# EAGLE library part SCA100T-D01 (library ICs)
MEMS Module, 4.75 V, 5.25 V, SMD, 12 Pins
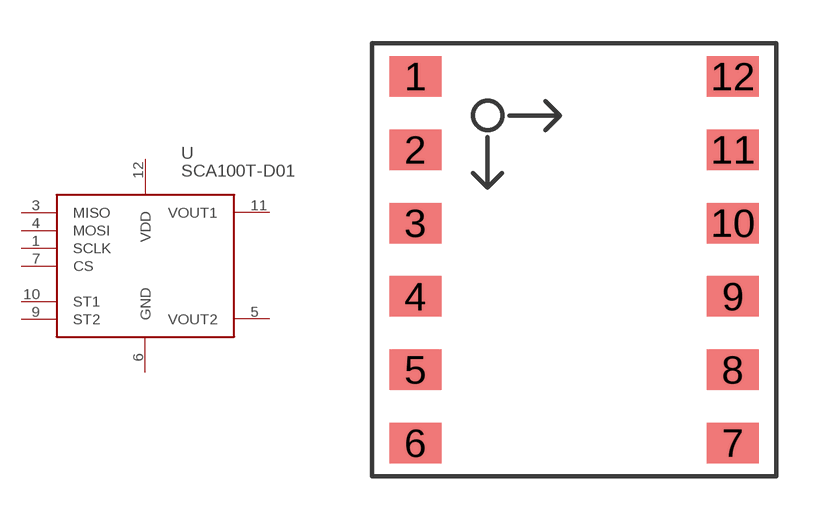
[diagram p165: symbol with the pads of SCA100T; footprint SCA100T]

Designator prefix U

## SCA100T-D01 (FARNELL: 2381833; HEIGHT: 6; PRICE_PER: 70.93; VALUE: SCA100T-D01)  [SCA100T]
1  SCLK
3  MISO
4  MOSI
5  VOUT2
6  GND
7  CS
9  ST2
10  ST1
11  VOUT1
12  VDD

## Footprint SCA100T (pad centres in mm)
smd 1.8 x 1.4: 1 -5.5,6.35; 2 -5.5,3.81; 3 -5.5,1.27; 4 -5.5,-1.27; 5 -5.5,-3.81; 6 -5.5,-6.35; 7 5.5,-6.35; 8 5.5,-3.81; 9 5.5,-1.27; 10 5.5,1.27; 11 5.5,3.81; 12 5.5,6.35